# EAGLE library part DMC2990UDJ (library Capstone Library)
Diodes Incorporated DMC2990UDJ Complementary Pair Enhancement Mode MOSFET
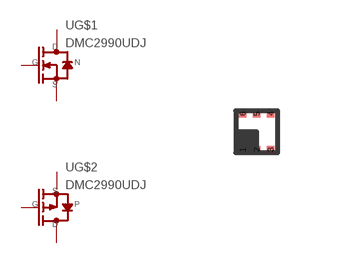
[diagram p7: symbol with the pads of SOT963; footprint SOT963]

Designator prefix -; gates G$1=MOSFET-N G$2=MOSFET-P

## DMC2990UDJ  [SOT963]
1  G$1:S  pas
2  G$1:G  pas
3  G$2:D  pas
4  G$2:S  pas
5  G$2:G  pas
6  G$1:D  pas

## Footprint SOT963 (pad centres in mm)
smd 0.19 x 0.2: 1 -0.35,-0.45; 2 0,-0.45; 3 0.35,-0.45; 4 0.35,0.45; 5 0,0.45; 6 -0.35,0.45